# Altium schematic symbol library Switch.SchLib: 2 symbols
Pins are listed as number, name and electrical type; pins without a type are passive.

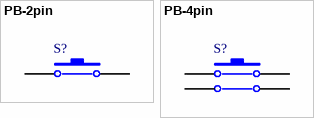
[diagram p0: symbols PB-2pin to PB-4pin]

## PB-2pin
designator S?  (value not drawn)
Switch; E-mail: picpars@gmail.com; Designer: Seyed Mohsen Ghasemian; Publisher: www.picpars.com; WEB: www.picpars.com
footprint PB-2pin (Switch)
pins: 1, 2

## PB-4pin
designator S?  (value not drawn)
Switch; E-mail: picpars@gmail.com; Designer: Seyed Mohsen Ghasemian; Publisher: www.picpars.com; WEB: www.picpars.com
footprint PB-4pin (Switch)
pins: 1, 2, 3, 4